# Altium schematic symbol library PMOS_Vishay_SI2325DS-T1-E3.SchLib: 1 symbol
Pins are listed as number, name and electrical type; pins without a type are passive.

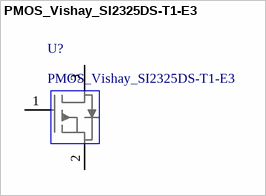
[diagram p0: symbol PMOS_Vishay_SI2325DS-T1-E3]

## PMOS_Vishay_SI2325DS-T1-E3
designator U?
pins: 1, 2, 3